# Altium schematic symbol library SCH - POWER - SWITCHMODE - TI TPS62410-Q1DRC.SchLib: 1 symbol
Pins are listed as number, name and electrical type; pins without a type are passive.

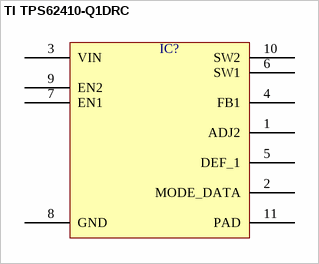
[diagram p0: symbol TI TPS62410-Q1DRC]

## TI TPS62410-Q1DRC
designator IC?  (value not drawn)
pins: 1 ADJ2, 2 MODE_DATA, 3 VIN, 4 FB1, 5 DEF_1, 6 SW1, 7 EN1, 8 GND, 9 EN2, 10 SW2, 11 PAD